# Altium footprint library ESP32-C6-WROOM-1.PcbLib: 1 footprints
Each footprint in its own frame and in the unit in brackets; x right, y up, seen from the top. Pads: shape width x height; smd on the part's side, far side on the other; paste and mask are expansions set on the pad; w line width, h text height; cw(c..) or ccw(c..) is an arc to the next point about the centre after c.
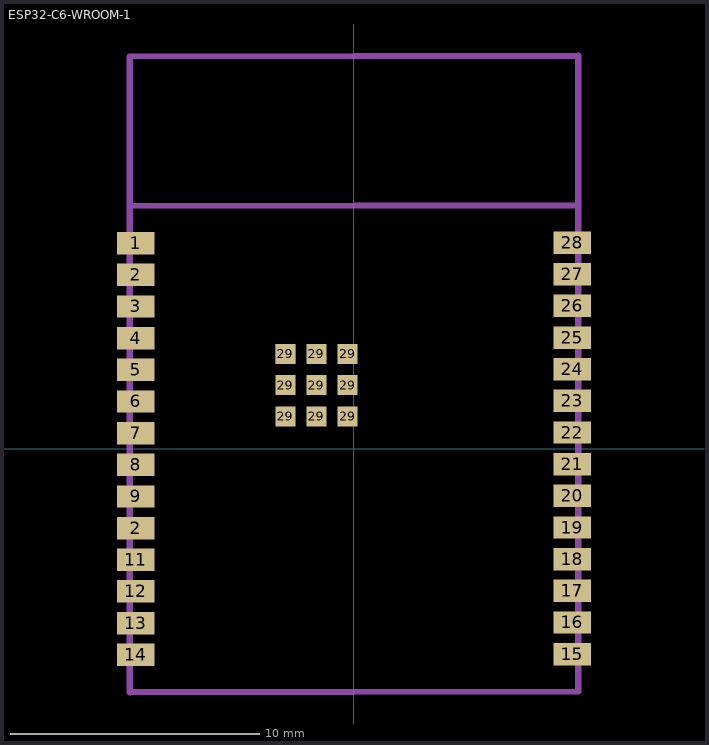
[diagram p0: the footprint, top view; thin cyan lines are the x and y axes]

## ESP32-C6-WROOM-1 [mm]
pads (37):
  rect 1.5x0.9 smd paste-2539.97 mask+0.05: 1(-8.75,8.243) 2(-8.75,-3.187) 2(-8.75,6.973) 3(-8.75,5.703) 4(-8.75,4.433) 5(-8.75,3.163) 6(-8.75,1.893) 7(-8.75,0.623) 8(-8.75,-0.647) 9(-8.75,-1.917) 11(-8.75,-4.457) 12(-8.75,-5.727) 13(-8.75,-6.997) 14(-8.75,-8.267) 15(8.75,-8.242) 16(8.75,-6.972) 17(8.75,-5.702) 18(8.75,-4.432) 19(8.75,-3.162) 20(8.75,-1.892) 21(8.75,-0.622) 22(8.75,0.648) 23(8.75,1.918) 24(8.75,3.188) 25(8.75,4.458) 26(8.75,5.728) 27(8.75,6.998) 28(8.75,8.268)
  rect 0.8x0.8 smd paste-2539.97 mask+0.05: 29(-2.755,1.298) 29(-2.755,2.548) 29(-2.755,3.798) 29(-1.505,1.298) 29(-1.505,2.548) 29(-1.505,3.798) 29(-0.255,1.298) 29(-0.255,2.548) 29(-0.255,3.798)
Top Layer:
  rectangle: -3.155,3.398 -2.355,4.197
Mechanical 1:
  lines w0.254: -9,9.733 8.975,9.757 ; -9,-9.768 -9,15.732 9,15.757 9,-9.743 -9,-9.768